# Altium footprint library PCB - Leaded - Divers - WE-760390015.PCBLIB: 1 footprints
Each footprint in its own frame and in the unit in brackets; x right, y up, seen from the top. Pads: shape width x height; smd on the part's side, far side on the other; paste and mask are expansions set on the pad; w line width, h text height; cw(c..) or ccw(c..) is an arc to the next point about the centre after c.
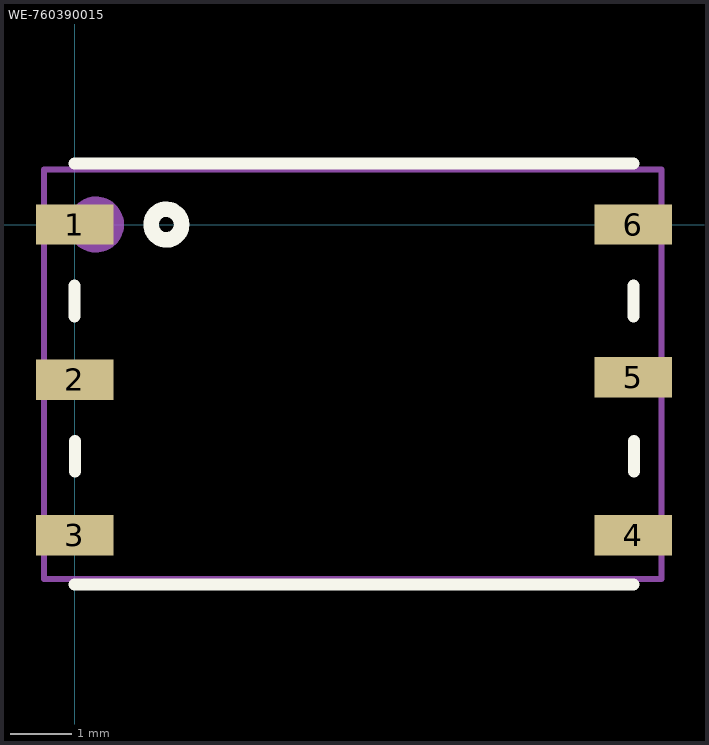
[diagram p0: the footprint, top view; thin cyan lines are the x and y axes]

## WE-760390015 [mm]
pads (6):
  rect 1.27x0.66 smd: 1(0,0) 2(0,-2.54) 3(0,-5.08) 4(9.14,-5.08) 5(9.14,-2.5) 6(9.14,0)
Top Overlay:
  circle w0.254: c1.5,0 r0.25
  lines w0.2: 0,-5.889 9.14,-5.889 ; 0,-1.5 0,-1 ; 0,1 9.14,1 ; 0.008,-4.04 0.008,-3.54 ; 9.14,-1.5 9.14,-1 ; 9.152,-4.04 9.152,-3.54
M5 Assembly Top:
  circle w0.457: c0.35,0 r0.229
  lines w0.1: -0.5,-5.8 9.6,-5.8 9.6,0.9 -0.5,0.9 -0.5,-5.8
  text ".Designator" at 2.503,-2.954 h1.52
3D body "250-1109 (rev1).STEP": height 4.19, standoff 0, extent -0.464,-5.822 9.586,0.908